# Altium schematic symbol library 0039300040.SchLib: 1 symbol
Pins are listed as number, name and electrical type; pins without a type are passive.

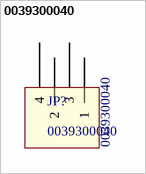
[diagram p0: symbol 0039300040]

## 0039300040
designator JP?
Manufacturer: Molex; PartDescription: CONN HEADER R/A 8POS 4.2MM; Package Type: 4 TH; Supplier 1: Digi-Key; Supplier Part Number 1: WM21352-ND; PartNumber: 0039300040
footprint 0039300040 (Molex Minifit 4 Pin)
pins: 1, 2, 3, 4